# Altium schematic symbol library zener.SchLib: 2 symbols
Pins are listed as number, name and electrical type; pins without a type are passive.

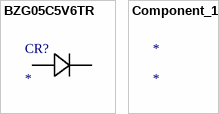
[diagram p0: symbols BZG05C5V6TR to Component_1]

## BZG05C5V6TR
designator CR?
Imported; Manufacturer_Part_Number: BZG05C5V6TR; Vendor: Vishay; Built_By: EMA_UL_Team; Type: DEV; C: Copyright (C) 2015 Accelerated Designs. All rights reserved; RefDes: RefDes; Value: Value
footprint DO-214AC
pins: 1, 2

## Component_1
designator *